# EAGLE library part CBM_A1200_EDGE_CONNECTOR (library u1200)
CBM A1200 Edge "Trapdoor" Connector
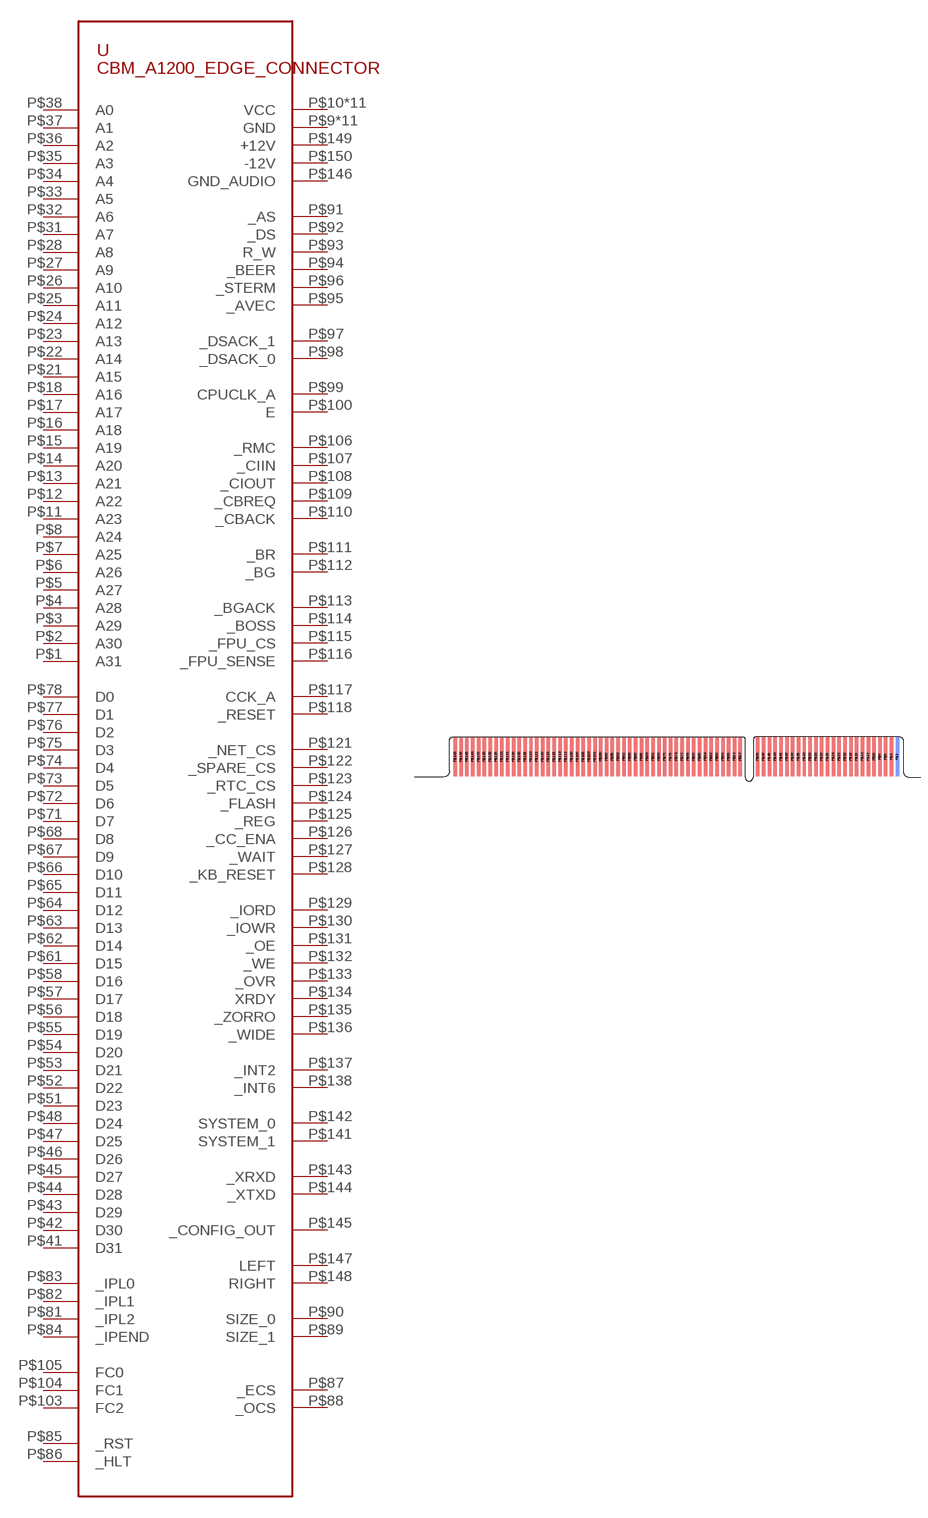
[diagram p0: symbol with the pads of CBM_A1200_EDGE_CONNECTOR_150P; footprint CBM_A1200_EDGE_CONNECTOR_150P]

Designator prefix -

## CBM_A1200_EDGE_CONNECTOR  [CBM_A1200_EDGE_CONNECTOR_150P]
P$1  A31
P$2  A30
P$3  A29
P$4  A28
P$5  A27
P$6  A26
P$7  A25
P$8  A24
P$9  GND  pas
P$10  VCC  pwr
P$11  A23
P$12  A22
P$13  A21
P$14  A20
P$15  A19
P$16  A18
P$17  A17
P$18  A16
P$19  GND  pas
P$20  VCC  pwr
P$21  A15
P$22  A14
P$23  A13
P$24  A12
P$25  A11
P$26  A10
P$27  A9
P$28  A8
P$29  GND  pas
P$30  VCC  pwr
P$31  A7
P$32  A6
P$33  A5
P$34  A4
P$35  A3
P$36  A2
P$37  A1
P$38  A0
P$39  GND  pas
P$40  VCC  pwr
P$41  D31
P$42  D30
P$43  D29
P$44  D28
P$45  D27
P$46  D26
P$47  D25
P$48  D24
P$49  GND  pas
P$50  VCC  pwr
P$51  D23
P$52  D22
P$53  D21
P$54  D20
P$55  D19
P$56  D18
P$57  D17
P$58  D16
P$59  GND  pas
P$60  VCC  pwr
P$61  D15
P$62  D14
P$63  D13
P$64  D12
P$65  D11
P$66  D10
P$67  D9
P$68  D8
P$69  GND  pas
P$70  VCC  pwr
P$71  D7
P$72  D6
P$73  D5
P$74  D4
P$75  D3
P$76  D2
P$77  D1
P$78  D0
P$79  GND  pas
P$80  VCC  pwr
P$81  _IPL2
P$82  _IPL1
P$83  _IPL0
P$84  _IPEND  nc
P$85  _RST
P$86  _HLT
P$87  _ECS  nc
P$88  _OCS  nc
P$89  SIZE_1
P$90  SIZE_0
P$91  _AS
P$92  _DS
P$93  R_W
P$94  _BEER
P$95  _AVEC
P$96  _STERM  nc
P$97  _DSACK_1
P$98  _DSACK_0
P$99  CPUCLK_A
P$100  E
P$101  GND  pas
P$102  VCC  pwr
P$103  FC2
P$104  FC1
P$105  FC0
P$106  _RMC
P$107  _CIIN  nc
P$108  _CIOUT  nc
P$109  _CBREQ  nc
P$110  _CBACK  nc
P$111  _BR
P$112  _BG
P$113  _BGACK  nc
P$114  _BOSS
P$115  _FPU_CS
P$116  _FPU_SENSE
P$117  CCK_A
P$118  _RESET
P$119  GND  pas
P$120  VCC  pwr
P$121  _NET_CS
P$122  _SPARE_CS
P$123  _RTC_CS
P$124  _FLASH
P$125  _REG
P$126  _CC_ENA
P$127  _WAIT
P$128  _KB_RESET
P$129  _IORD
P$130  _IOWR
P$131  _OE
P$132  _WE
P$133  _OVR
P$134  XRDY
P$135  _ZORRO
P$136  _WIDE
P$137  _INT2
P$138  _INT6
P$139  GND  pas
P$140  VCC  pwr
P$141  SYSTEM_1
P$142  SYSTEM_0
P$143  _XRXD
P$144  _XTXD
P$145  _CONFIG_OUT
P$146  GND_AUDIO  pas
P$147  LEFT
P$148  RIGHT
P$149  +12V  pwr
P$150  -12V  pwr

## Footprint CBM_A1200_EDGE_CONNECTOR_150P (pad centres in mm)
CMD A1200 Edge "Trapdoor" 150P Connector Even pads are on top Odd pad are on bottom
smd 0.762 x 8.636 bottom: P$1 0,-0.635; P$3 -1.27,-0.635; P$5 -2.54,-0.635; P$7 -3.81,-0.635; P$9 -5.08,-0.635; P$11 -6.35,-0.635; P$13 -7.62,-0.635; P$15 -8.89,-0.635; P$17 -10.16,-0.635; P$19 -11.43,-0.635; P$21 -12.7,-0.635; P$23 -13.97,-0.635; P$25 -15.24,-0.635; P$27 -16.51,-0.635; P$29 -17.78,-0.635; P$31 -19.05,-0.635; P$33 -20.32,-0.635; P$35 -21.59,-0.635; P$37 -22.86,-0.635; P$39 -24.13,-0.635; P$41 -25.4,-0.635; P$43 -26.67,-0.635; P$45 -27.94,-0.635; P$47 -29.21,-0.635; P$49 -30.48,-0.635; P$51 -34.29,-0.635; P$53 -35.56,-0.635; P$55 -36.83,-0.635; P$57 -38.1,-0.635; P$59 -39.37,-0.635; P$61 -40.64,-0.635; P$63 -41.91,-0.635; P$65 -43.18,-0.635; P$67 -44.45,-0.635; P$69 -45.72,-0.635; P$71 -46.99,-0.635; P$73 -48.26,-0.635; P$75 -49.53,-0.635; P$77 -50.8,-0.635; P$79 -52.07,-0.635; P$81 -53.34,-0.635; P$83 -54.61,-0.635; P$85 -55.88,-0.635; P$87 -57.15,-0.635; P$89 -58.42,-0.635; P$91 -59.69,-0.635; P$93 -60.96,-0.635; P$95 -62.23,-0.635; P$97 -63.5,-0.635; P$99 -64.77,-0.635; P$101 -66.04,-0.635; P$103 -67.31,-0.635; P$105 -68.58,-0.635; P$107 -69.85,-0.635; P$109 -71.12,-0.635; P$111 -72.39,-0.635; P$113 -73.66,-0.635; P$115 -74.93,-0.635; P$117 -76.2,-0.635; P$119 -77.47,-0.635; P$121 -78.74,-0.635; P$123 -80.01,-0.635; P$125 -81.28,-0.635; P$127 -82.55,-0.635; P$129 -83.82,-0.635; P$131 -85.09,-0.635; P$133 -86.36,-0.635; P$135 -87.63,-0.635; P$137 -88.9,-0.635; P$139 -90.17,-0.635; P$141 -91.44,-0.635; P$143 -92.71,-0.635; P$145 -93.98,-0.635; P$147 -95.25,-0.635; P$149 -96.52,-0.635
smd 0.762 x 8.636: P$2 0,-0.635; P$4 -1.27,-0.635; P$6 -2.54,-0.635; P$8 -3.81,-0.635; P$10 -5.08,-0.635; P$12 -6.35,-0.635; P$14 -7.62,-0.635; P$16 -8.89,-0.635; P$18 -10.16,-0.635; P$20 -11.43,-0.635; P$22 -12.7,-0.635; P$24 -13.97,-0.635; P$26 -15.24,-0.635; P$28 -16.51,-0.635; P$30 -17.78,-0.635; P$32 -19.05,-0.635; P$34 -20.32,-0.635; P$36 -21.59,-0.635; P$38 -22.86,-0.635; P$40 -24.13,-0.635; P$42 -25.4,-0.635; P$44 -26.67,-0.635; P$46 -27.94,-0.635; P$48 -29.21,-0.635; P$50 -30.48,-0.635; P$52 -34.29,-0.635; P$54 -35.56,-0.635; P$56 -36.83,-0.635; P$58 -38.1,-0.635; P$60 -39.37,-0.635; P$62 -40.64,-0.635; P$64 -41.91,-0.635; P$66 -43.18,-0.635; P$68 -44.45,-0.635; P$70 -45.72,-0.635; P$72 -46.99,-0.635; P$74 -48.26,-0.635; P$76 -49.53,-0.635; P$78 -50.8,-0.635; P$80 -52.07,-0.635; P$82 -53.34,-0.635; P$84 -54.61,-0.635; P$86 -55.88,-0.635; P$88 -57.15,-0.635; P$90 -58.42,-0.635; P$92 -59.69,-0.635; P$94 -60.96,-0.635; P$96 -62.23,-0.635; P$98 -63.5,-0.635; P$100 -64.77,-0.635; P$102 -66.04,-0.635; P$104 -67.31,-0.635; P$106 -68.58,-0.635; P$108 -69.85,-0.635; P$110 -71.12,-0.635; P$112 -72.39,-0.635; P$114 -73.66,-0.635; P$116 -74.93,-0.635; P$118 -76.2,-0.635; P$120 -77.47,-0.635; P$122 -78.74,-0.635; P$124 -80.01,-0.635; P$126 -81.28,-0.635; P$128 -82.55,-0.635; P$130 -83.82,-0.635; P$132 -85.09,-0.635; P$134 -86.36,-0.635; P$136 -87.63,-0.635; P$138 -88.9,-0.635; P$140 -90.17,-0.635; P$142 -91.44,-0.635; P$144 -92.71,-0.635; P$146 -93.98,-0.635; P$148 -95.25,-0.635; P$150 -96.52,-0.635